# Altium schematic symbol library S8B-PH-K-S(LF)(SN).SchLib: 1 symbol
Pins are listed as number, name and electrical type; pins without a type are passive.

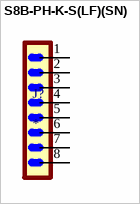
[diagram p0: symbol S8B-PH-K-S(LF)(SN)]

## S8B-PH-K-S(LF)(SN)
designator J?
ç©´ã‚’é€šã‚‹ã‚³ãƒã‚¯ã‚¿ãƒ˜ãƒƒãƒ€ãƒ¼ã€å³è§’åº¦8ä½ç½®0.079 (2.00mm)ã€‚; MF: JST Sales; MP: S8B-PH-K-S (LF)(SN); Package: NON STANDARD-8 J.S.T.; Price: None; Value: *; SnapEDA_Link: https://www.snapeda.com/parts/S8B-PH-K-S%20(LF)(SN)/JST+Sales+America+Inc./view-part/?ref=snap; Availability: In Stock; Check_prices: https://www.snapeda.com/parts/S8B-PH-K-S%20(LF)(SN)/JST+Sales+America+Inc./view-part/?ref=eda
pins: 1, 2, 3, 4, 5, 6, 7, 8